# Altium schematic symbol library RF_Amplifiers.SchLib: 20 symbols
Pins are listed as number, name and electrical type; pins without a type are passive.

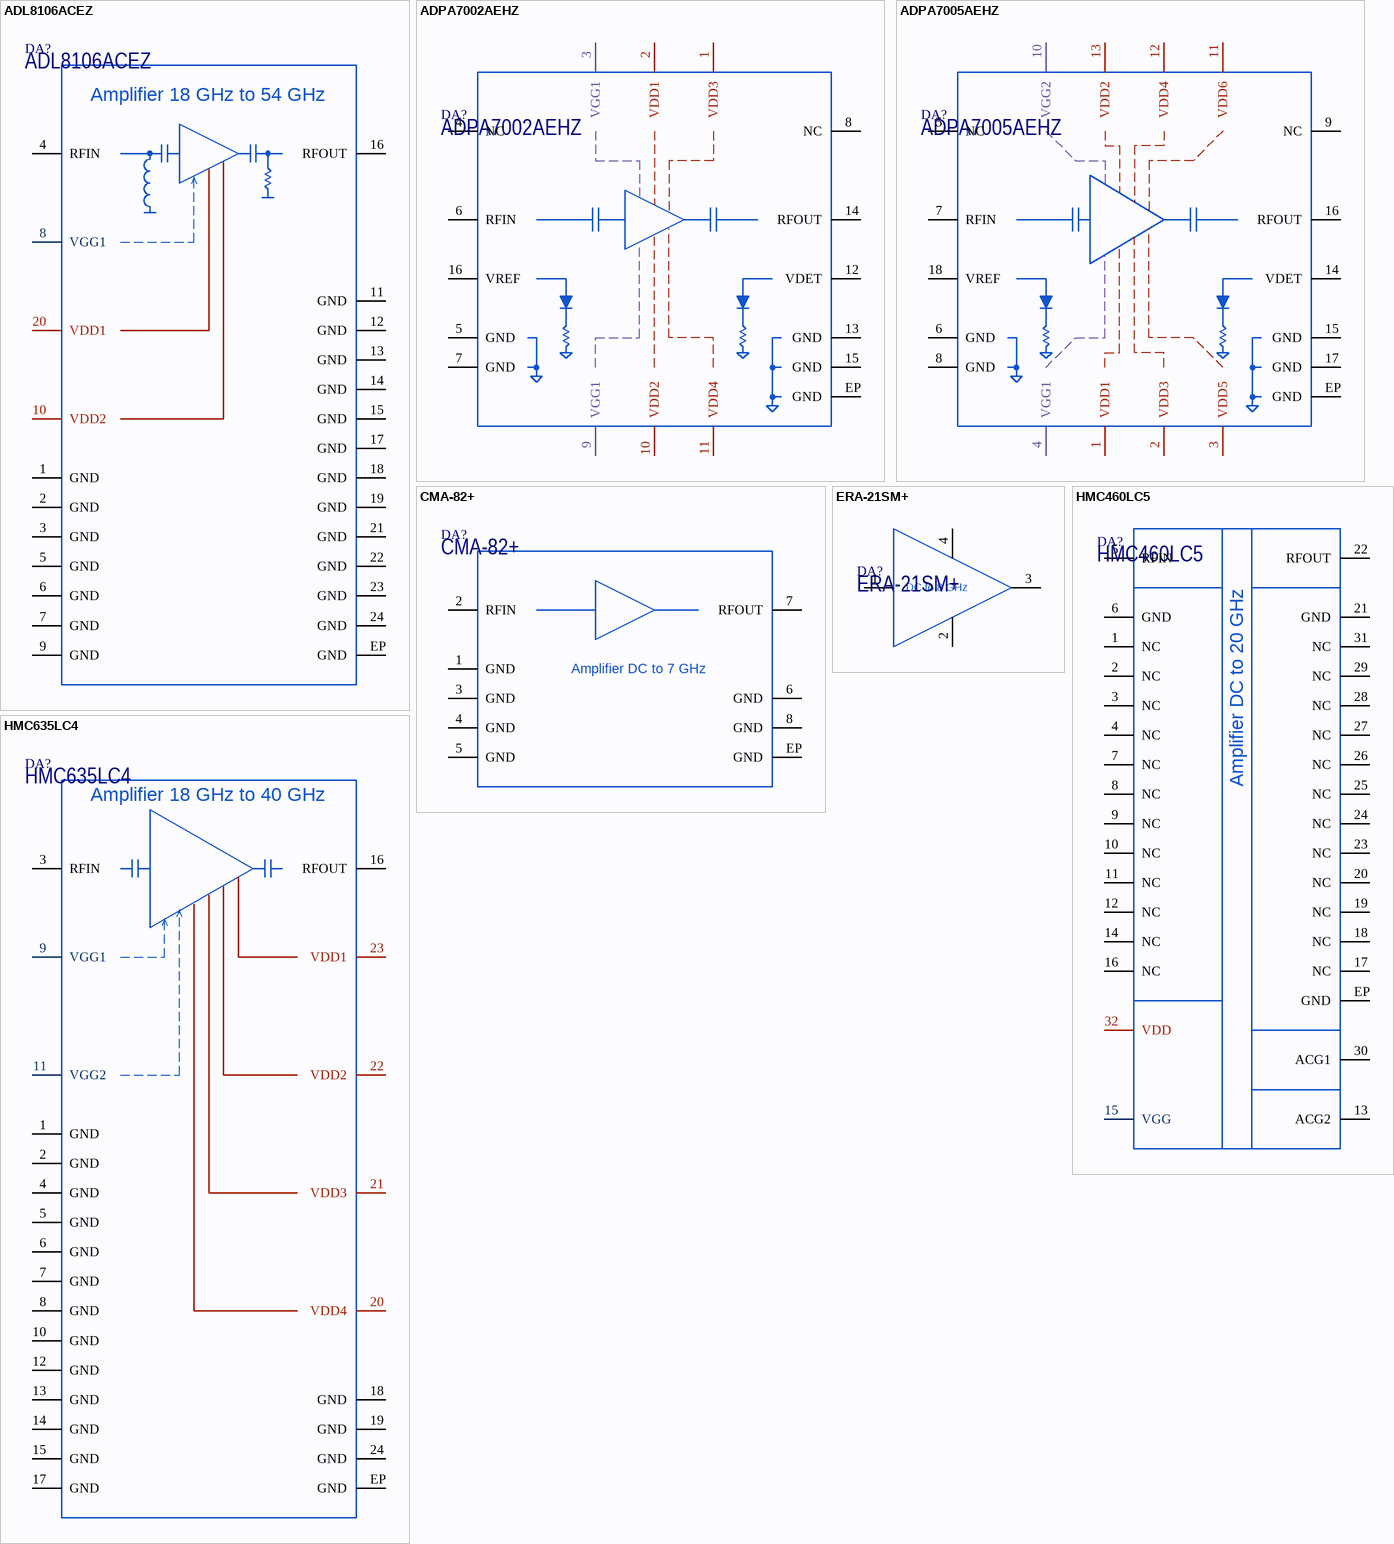
[diagram p0: symbols ADL8106ACEZ to HMC635LC4]

## ADL8106ACEZ
designator DA?
GaAs, pHEMT, Low Noise Amplifier, 18 GHz to 54 GHz; Manufacturer: Analog Devices; ItemType: IC; Alternative1: ADL8106ACEZ-R7; PartNumber: ADL8106ACEZ; Package: LGA-24; ItemSubType: Amplifier; AltManufacturer1: Analog Devices; Mounting: SMD
footprint LGA-24(CE-24-2) (24-Terminal Chip Array Small Outline No Lead [LGA_CAV]  5.00 mm × 5.00 mm Body and 1.60 mm Height)
pins: 1 GND, 2 GND, 3 GND, 4 RFIN, 5 GND, 6 GND, 7 GND, 8 VGG1, 9 GND, 10 VDD2, 11 GND, 12 GND, 13 GND, 14 GND, 15 GND, 16 RFOUT, 17 GND, 18 GND, 19 GND, 20 VDD1, 21 GND, 22 GND, 23 GND, 24 GND, EP GND
text: Amplifier 18 GHz to 54 GHz

## ADPA7002AEHZ
designator DA?
GaAs, pHEMT, MMIC, 1/2 W, 18 GHz to 44 GHz, Power Amplifier; Manufacturer: Analog Devices; ItemType: IC; PartNumber: ADPA7002AEHZ; Package: LCC_HS-16; ItemSubType: Amplifier; Mounting: SMD
footprint LCC_HS-16(EH-16-1) (16-Terminal Ceramic Leadless Chip Carrier with Heat Sink, Thermal Pad 3.55x3.55mm)
pins: 1 VDD3, 2 VDD1, 3 VGG1, 4 NC (hiz), 5 GND, 6 RFIN, 7 GND, 8 NC (hiz), 9 VGG1, 10 VDD2, 11 VDD4, 12 VDET, 13 GND, 14 RFOUT, 15 GND, 16 VREF, EP GND

## ADPA7005AEHZ
designator DA?
18 GHz to 44 GHz, GaAs, pHEMT, 32 dBm (>1 W), MMIC Power Amplifier; Manufacturer: Analog Devices; ItemType: IC; PartNumber: ADPA7005AEHZ; Package: LCC_HS-18; ItemSubType: Amplifier; Mounting: SMD
footprint LCC_HS-18(EH-18-1) (18-Terminal Ceramic Leadless Chip Carrier with Heat Sink  [LCC_HS], Thermal Pad 4.55x4.55mm)
pins: 1 VDD1, 2 VDD3, 3 VDD5, 4 VGG1, 5 NC (hiz), 6 GND, 7 RFIN, 8 GND, 9 NC (hiz), 10 VGG2, 11 VDD6, 12 VDD4, 13 VDD2, 14 VDET, 15 GND, 16 RFOUT, 17 GND, 18 VREF, EP GND

## CMA-82+
designator DA?
Wideband, High Dynamic Range, Ceramic Monolithic Amplifier; Manufacturer: Minicircuits; ItemType: IC; PartNumber: CMA-82+; Package: DL1721; ItemSubType: Amplifier; Marking: CMA-82+; Mounting: SMD
footprint DL1721 (DL1721 Minicircuits case style)
pins: 1 GND, 2 RFIN, 3 GND, 4 GND, 5 GND, 6 GND, 7 RFOUT, 8 GND, EP GND
text: Amplifier DC to 7 GHz

## ERA-21SM+
designator DA?
50Ω Monolithic Amplifier DC to 8 GHz; Manufacturer: Mini-Circuits; Marking: 21; ItemType: IC; PartNumber: ERA-21SM+; Package: WW107; ItemSubType: Amplifier; Mounting: SMD
footprint WW107 (WW107 Minicircuits case style)
pins: 1 IN, 2 GND, 3 OUT, 4 GND
text: DC to 8 GHz

## HMC460LC5
designator DA?
GaAs, pHEMT MMIC Low Noise Amplifier, DC - 20 GHz; Manufacturer: Analog Devices; Marking: H460; ItemType: IC; PartNumber: HMC460LC5; Package: LCC-32; ItemSubType: Amplifier; Mounting: SMD
footprint LCC-32(E-32-1) (LCC, 24-Leads, Body 4.9x4.9mm, Pitch 0.50mm, Thermal Pad 3.50x3.50mm)
pins: 1 NC, 2 NC, 3 NC, 4 NC, 5 RFIN, 6 GND, 7 NC, 8 NC, 9 NC, 10 NC, 11 NC, 12 NC, 13 ACG2, 14 NC, 15 VGG, 16 NC, 17 NC, 18 NC, 19 NC, 20 NC, 21 GND, 22 RFOUT, 23 NC, 24 NC, 25 NC, 26 NC, 27 NC, 28 NC, 29 NC, 30 ACG1, 31 NC, 32 VDD, EP GND
text: Amplifier DC to 20 GHz

## HMC635LC4
designator DA?
GaAs PHEMT MMIC Driver Amplifier, 18 - 40 GHz; Manufacturer: Analog Devices; ItemType: IC; Marking: H635; PartNumber: HMC635LC4; Package: LCC-24; ItemSubType: Amplifier; Mounting: SMD
footprint LCC-24(E-24-1) (24-Leads, Body 4,00x4,00mm, Pitch 0,50mm, Thermal Pad 2.5x2.5mm, IPC Medium Density)
pins: 1 GND, 2 GND, 3 RFIN, 4 GND, 5 GND, 6 GND, 7 GND, 8 GND, 9 VGG1, 10 GND, 11 VGG2, 12 GND, 13 GND, 14 GND, 15 GND, 16 RFOUT, 17 GND, 18 GND, 19 GND, 20 VDD4, 21 VDD3, 22 VDD2, 23 VDD1, 24 GND, EP GND
text: Amplifier 18 GHz to 40 GHz

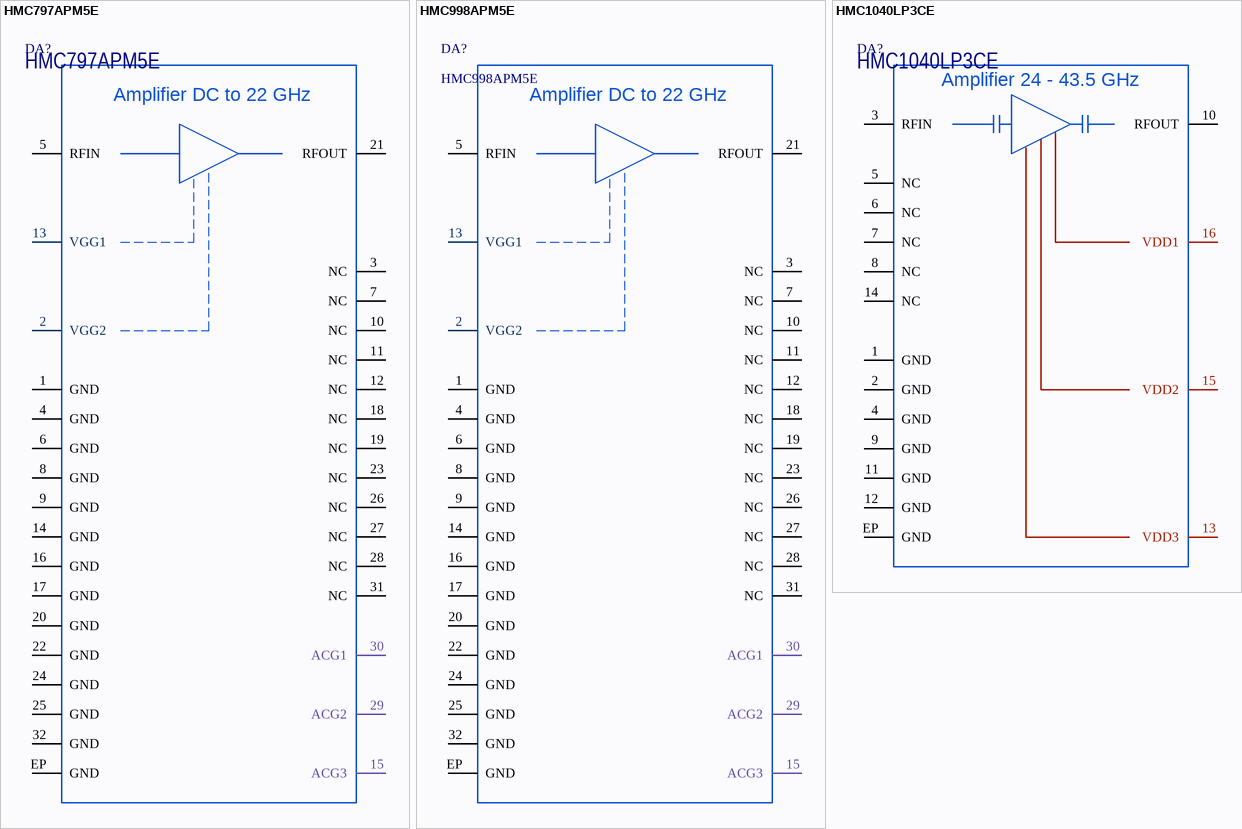
[diagram p1: symbols HMC797APM5E to HMC1040LP3CE]

## HMC797APM5E
designator DA?
GaAs pHEMT MMIC 1 Watt Power Amplifier, DC - 22 GHz; Manufacturer: Analog Devices; ItemType: IC; PartNumber: HMC797APM5E; Package: LFCSP_CAV-32; ItemSubType: Amplifier; Mounting: SMD
footprint LFCSP_CAV-32(CG-32-2) (QFN, 32-Leads, Body 5x5mm, Pitch 0.50mm, Thermal Pad 3.10x3.10mm)
pins: 1 GND, 2 VGG2, 3 NC (hiz), 4 GND, 5 RFIN, 6 GND, 7 NC (hiz), 8 GND, 9 GND, 10 NC (hiz), 11 NC (hiz), 12 NC (hiz), 13 VGG1, 14 GND, 15 ACG3, 16 GND, 17 GND, 18 NC (hiz), 19 NC (hiz), 20 GND, 21 RFOUT, 22 GND, 23 NC (hiz), 24 GND, 25 GND, 26 NC (hiz), 27 NC (hiz), 28 NC (hiz), 29 ACG2, 30 ACG1, 31 NC (hiz), 32 GND, EP GND
text: Amplifier DC to 22 GHz

## HMC998APM5E
designator DA?
GaAs pHEMT MMIC / 2 Watt Power Amplifier, DC - 22 GHz; Manufacturer: Analog Devices; ItemType: IC; PartNumber: HMC998APM5E; Package: LFCSP_CAV-32; ItemSubType: Amplifier; Alternative1: *; AltManufacturer1: *
footprint LFCSP_CAV-32(CG-32-2) (QFN, 32-Leads, Body 5x5mm, Pitch 0.50mm, Thermal Pad 3.10x3.10mm)
pins: 1 GND, 2 VGG2, 3 NC (hiz), 4 GND, 5 RFIN, 6 GND, 7 NC (hiz), 8 GND, 9 GND, 10 NC (hiz), 11 NC (hiz), 12 NC (hiz), 13 VGG1, 14 GND, 15 ACG3, 16 GND, 17 GND, 18 NC (hiz), 19 NC (hiz), 20 GND, 21 RFOUT, 22 GND, 23 NC (hiz), 24 GND, 25 GND, 26 NC (hiz), 27 NC (hiz), 28 NC (hiz), 29 ACG2, 30 ACG1, 31 NC (hiz), 32 GND, EP GND
text: Amplifier DC to 22 GHz

## HMC1040LP3CE
designator DA?
GaAs pHEMT MMIC Low Noise Amplifier, 24 - 43.5 GHz; Manufacturer: Analog Devices; ItemType: IC; Marking: H1040; PartNumber: HMC1040LP3CE; Package: QFN-16; ItemSubType: Amplifier; Mounting: SMD
footprint QFN16_HMC1040 (QFN16 3mm x 3mm, 0.5mm pitch)
pins: 1 GND, 2 GND, 3 RFIN, 4 GND, 5 NC, 6 NC, 7 NC, 8 NC, 9 GND, 10 RFOUT, 11 GND, 12 GND, 13 VDD3, 14 NC, 15 VDD2, 16 VDD1, EP GND
text: Amplifier 24 - 43.5 GHz

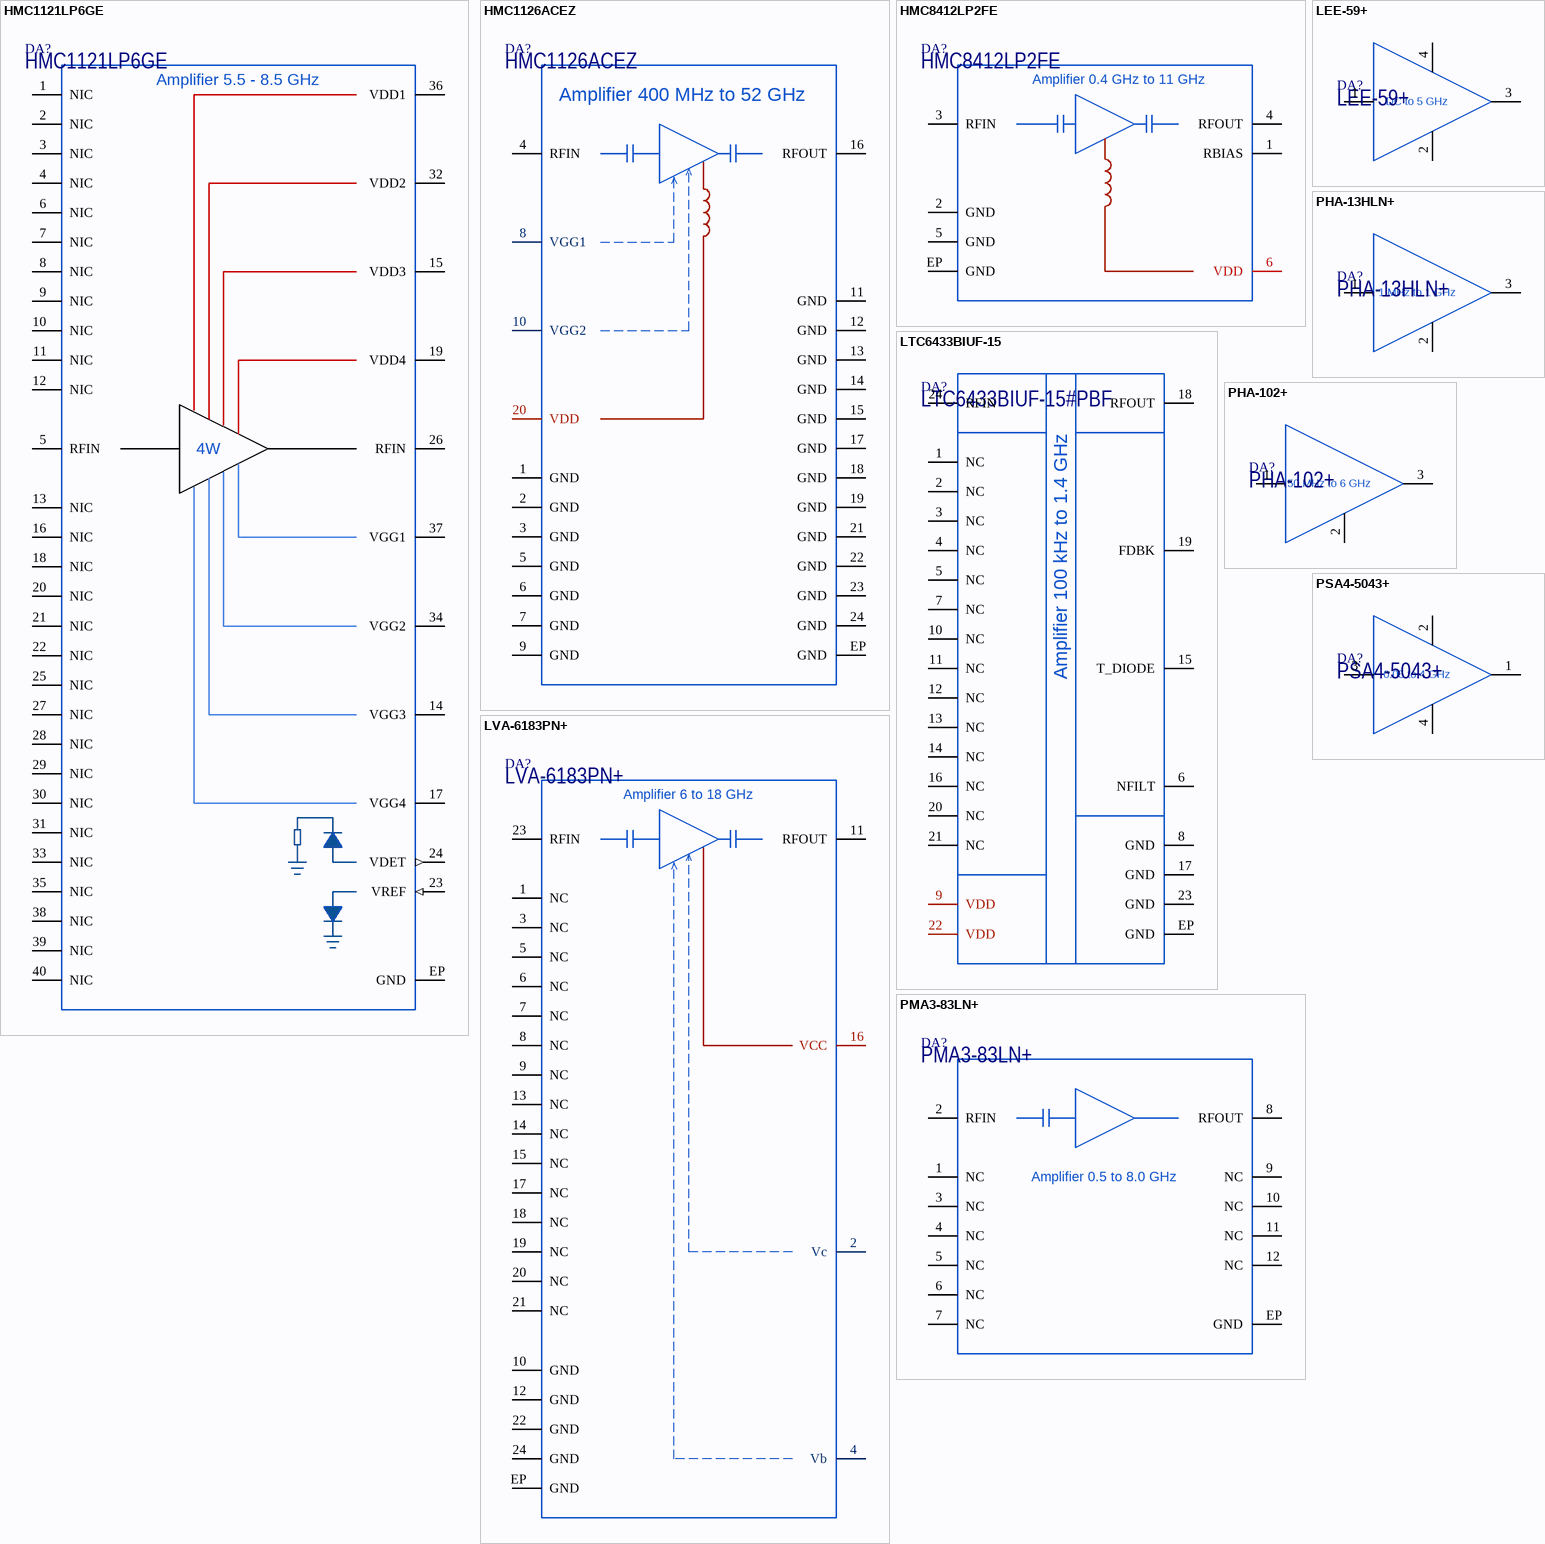
[diagram p2: symbols HMC1121LP6GE to PSA4-5043+]

## HMC1121LP6GE
designator DA?
4 W, GaAs, pHEMT, MMIC Power Amplifier, 5.5 GHz to 8.5 GHz; Manufacturer: Analog Devices; ItemType: IC; Marking: H1121; PartNumber: HMC1121LP6GE; Package: HCP-40-1; ItemSubType: Amplifier; Mounting: SMD
footprint HCP-40-1 (QFN, 24-Leads, Body 6x6mm, Pitch 0.50mm, Thermal Pad 4.70x4.70mm. Compliant to JEDEC standards MO-220-VJJD-5)
pins: 1 NIC, 2 NIC, 3 NIC, 4 NIC, 5 RFIN, 6 NIC, 7 NIC, 8 NIC, 9 NIC, 10 NIC, 11 NIC, 12 NIC, 13 NIC, 14 VGG3 (power), 15 VDD3 (power), 16 NIC, 17 VGG4 (power), 18 NIC, 19 VDD4 (power), 20 NIC, 21 NIC, 22 NIC, 23 VREF (in), 24 VDET (out), 25 NIC, 26 RFIN, 27 NIC, 28 NIC, 29 NIC, 30 NIC, 31 NIC, 32 VDD2 (power), 33 NIC, 34 VGG2 (power), 35 NIC, 36 VDD1 (power), 37 VGG1 (power), 38 NIC, 39 NIC, 40 NIC, EP GND
text: Amplifier 5.5 - 8.5 GHz; 4W

## HMC1126ACEZ
designator DA?
GaAs, pHEMT, Low Noise Amplifier, 400 MHz to 52 GHz; Manufacturer: Analog Devices; ItemType: IC; Alternative1: HMC1126ACEZ-R7; PartNumber: HMC1126ACEZ; Package: LGA-24; ItemSubType: Amplifier; AltManufacturer1: Analog Devices; Mounting: SMD
footprint LGA-24(CE-24-2) (24-Terminal Chip Array Small Outline No Lead [LGA_CAV]  5.00 mm × 5.00 mm Body and 1.60 mm Height)
pins: 1 GND, 2 GND, 3 GND, 4 RFIN, 5 GND, 6 GND, 7 GND, 8 VGG1, 9 GND, 10 VGG2, 11 GND, 12 GND, 13 GND, 14 GND, 15 GND, 16 RFOUT, 17 GND, 18 GND, 19 GND, 20 VDD, 21 GND, 22 GND, 23 GND, 24 GND, EP GND
text: Amplifier 400 MHz to 52 GHz

## HMC8412LP2FE
designator DA?
Low Noise Amplifier, 0.4 GHz to 11 GHz; Manufacturer: Analog Devices; ItemType: IC; Marking: Y7S; PartNumber: HMC8412LP2FE; Package: LFCSP-6; ItemSubType: Amplifier; Mounting: SMD
footprint LFCSP-6(CP-6-12) (QFN, 6-Leads, Body 2x2mm, Pitch 0.650mm, Thermal Pad 1.0x1.6mm)
pins: 1 RBIAS, 2 GND, 3 RFIN, 4 RFOUT, 5 GND, 6 VDD (power), EP GND
text: Amplifier 0.4 GHz to 11 GHz

## LEE-59+
designator DA?
50Ω Monolithic Amplifier DC to 5 GHz; Manufacturer: Mini-Circuits; Marking: MCL59; ItemType: IC; PartNumber: LEE-59+; Package: FG873; ItemSubType: Amplifier; Mounting: SMD
footprint FG873 (FG873 Minicircuits case style)
pins: 1 IN, 2 GND, 3 OUT, 4 GND
text: DC to 5 GHz

## LTC6433BIUF-15
designator DA?, comment LTC6433BIUF-15#PBF
100 kHz to 1.4GHz 50Ω Gain Block IF Amplifier; Manufacturer: Analog Devices; Marking: 43315; ItemType: IC; PartNumber: LTC6433BIUF-15#PBF; Package: QFN-24; ItemSubType: Amplifier; Mounting: SMD
footprint QFN24_LT6433 (QFN, 24-Leads, Body 4x4mm, Pitch 0.50mm, Thermal Pad 2.45x2.45mm. Compliant to JEDEC standards MO-220-WGGD-X)
pins: 1 NC, 2 NC, 3 NC, 4 NC, 5 NC, 6 NFILT, 7 NC, 8 GND, 9 VDD, 10 NC, 11 NC, 12 NC, 13 NC, 14 NC, 15 T_DIODE, 16 NC, 17 GND, 18 RFOUT (power), 19 FDBK (power), 20 NC, 21 NC, 22 VDD, 23 GND, 24 RFIN (power), EP GND
text: Amplifier 100 kHz to 1.4 GHz

## LVA-6183PN+
designator DA?
MMIC Wideband Amplifier Ultra-Low Phase Noise 6 to 18 GHz; Manufacturer: Minicircuits; ItemType: IC; Marking: 183P+; PartNumber: LVA-6183PN+; Package: QFN-24; ItemSubType: Amplifier; Mounting: SMD
footprint QFN24_LVA_6183PN (QFN, 24-Leads, Body 4x4mm, Pitch 0.50mm, Thermal Pad 2.65x2.65mm)
pins: 1 NC, 2 Vc, 3 NC, 4 Vb, 5 NC, 6 NC, 7 NC, 8 NC, 9 NC, 10 GND, 11 RFOUT, 12 GND, 13 NC, 14 NC, 15 NC, 16 VCC, 17 NC, 18 NC, 19 NC, 20 NC, 21 NC, 22 GND, 23 RFIN, 24 GND, EP GND
text: Amplifier 6 to 18 GHz

## PHA-13HLN+
designator DA?
50Ω Monolithic Amplifier 1 MHz to 1 GHz; Manufacturer: Mini-Circuits; Marking: PH23; ItemType: IC; PartNumber: PHA-13HLN+; Package: DF782; ItemSubType: Amplifier; Mounting: SMD
footprint DF782 (DF782 Minicircuits case style)
pins: 1 IN, 2 GND, 3 OUT
text: 1 MHz to 1 GHz

## PHA-102+
designator DA?
50Ω Monolithic Amplifier 50 MHz to 6 GHz; Manufacturer: Mini-Circuits; Marking: P102; ItemType: IC; PartNumber: PHA-102+; Package: DF782; ItemSubType: Amplifier; Mounting: SMD
footprint DF782 (DF782 Minicircuits case style)
pins: 1 IN, 2 GND, 3 OUT
text: 50 MHz to 6 GHz

## PMA3-83LN+
designator DA?
Low Noise, Wideband, High IP3 Monolithic Amplifier 0.5 to 8.0 GHz; Manufacturer: Minicircuits; ItemType: IC; Marking: 83LN; PartNumber: PMA3-83LN+; Package: DQ1225; ItemSubType: Amplifier; Mounting: SMD
footprint DQ1225 (Minicircuits DQ1225 case style)
pins: 1 NC, 2 RFIN, 3 NC, 4 NC, 5 NC, 6 NC, 7 NC, 8 RFOUT, 9 NC, 10 NC, 11 NC, 12 NC, EP GND
text: Amplifier 0.5 to 8.0 GHz

## PSA4-5043+
designator DA?
50Ω Monolithic Amplifier 0.05 to 4 GHz; Manufacturer: Mini-Circuits; Marking: 504; ItemType: IC; PartNumber: PSA4-5043+; Package: MMM1362; ItemSubType: Amplifier; Mounting: SMD
footprint MMM1362 (Case style MMM1362)
pins: 1 OUT, 2 GND, 3 IN, 4 GND
text: 0.05 to 4 GHz